# Altium schematic symbol library JST.SchLib: 3 symbols
Pins are listed as number, name and electrical type; pins without a type are passive.

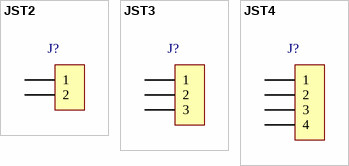
[diagram p0: symbols JST2 to JST4]

## JST2
designator J?
footprint JST2 (JST Connector With 2 Pins)
pins: 1, 2

## JST3
designator J?
footprint JST3 (JST Connector With 3 Pins)
pins: 1, 2, 3

## JST4
designator J?
footprint JST4 (JST Connector With 4 Pins)
pins: 1, 2, 3, 4